# EAGLE library part 29XE010 (library memories)
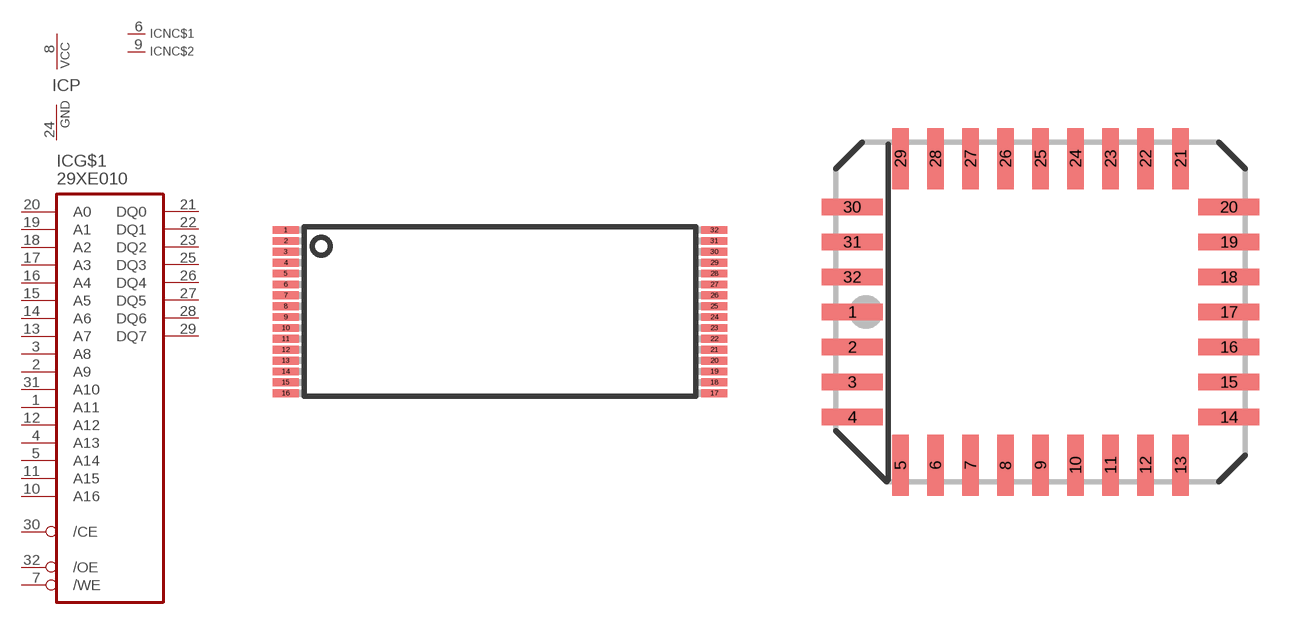
[diagram p10: symbol with the pads of TSOP32; footprints TSOP32, PLCC32]

Designator prefix IC; gates G$1=29EE010 P=PWRN NC$1=NC NC$2=NC

## 29XE010E  [TSOP32]
1  G$1:A11  in
2  G$1:A9  in
3  G$1:A8  in
4  G$1:A13  in
5  G$1:A14  in
6  NC$1:NC  nc
7  G$1:/WE  in
8  P:VCC  pwr
9  NC$2:NC  nc
10  G$1:A16  in
11  G$1:A15  in
12  G$1:A12  in
13  G$1:A7  in
14  G$1:A6  in
15  G$1:A5  in
16  G$1:A4  in
17  G$1:A3  in
18  G$1:A2  in
19  G$1:A1  in
20  G$1:A0  in
21  G$1:DQ0
22  G$1:DQ1
23  G$1:DQ2
24  P:GND  pwr
25  G$1:DQ3
26  G$1:DQ4
27  G$1:DQ5
28  G$1:DQ6
29  G$1:DQ7
30  G$1:/CE  in
31  G$1:A10  in
32  G$1:/OE  in

## 29XE010P  [PLCC32]
1  NC$1:NC  nc
2  G$1:A16  in
3  G$1:A15  in
4  G$1:A12  in
5  G$1:A7  in
6  G$1:A6  in
7  G$1:A5  in
8  G$1:A4  in
9  G$1:A3  in
10  G$1:A2  in
11  G$1:A1  in
12  G$1:A0  in
13  G$1:DQ0
14  G$1:DQ1
15  G$1:DQ2
16  P:GND  pwr
17  G$1:DQ3
18  G$1:DQ4
19  G$1:DQ5
20  G$1:DQ6
21  G$1:DQ7
22  G$1:/CE  in
23  G$1:A10  in
24  G$1:/OE  in
25  G$1:A11  in
26  G$1:A9  in
27  G$1:A8  in
28  G$1:A13  in
29  G$1:A14  in
30  NC$2:NC  nc
31  G$1:/WE  in
32  P:VCC  pwr

## 29XE010P-TH-SOCKET  [PLCC-S32]
Pads as for PLCC32

## 29XE010P-SMT-SOCKET  [PLCCSM32]
Pads as for PLCC32

## 29XE010N  [DIL32-6]
Pads as for PLCC32

## Footprint TSOP32 (pad centres in mm)
smd 1.2 x 0.36: 1 -9.85,3.75; 2 -9.85,3.25; 3 -9.85,2.75; 4 -9.85,2.25; 5 -9.85,1.75; 6 -9.85,1.25; 7 -9.85,0.75; 8 -9.85,0.25; 9 -9.85,-0.25; 10 -9.85,-0.75; 11 -9.85,-1.25; 12 -9.85,-1.75; 13 -9.85,-2.25; 14 -9.85,-2.75; 15 -9.85,-3.25; 16 -9.85,-3.75; 17 9.85,-3.75; 18 9.85,-3.25; 19 9.85,-2.75; 20 9.85,-2.25; 21 9.85,-1.75; 22 9.85,-1.25; 23 9.85,-0.75; 24 9.85,-0.25; 25 9.85,0.25; 26 9.85,0.75; 27 9.85,1.25; 28 9.85,1.75; 29 9.85,2.25; 30 9.85,2.75; 31 9.85,3.25; 32 9.85,3.75

## Footprint PLCC32 (pad centres in mm)
PLASTIC LEADED CHIP CARRIER rectangle, package type L
smd 2.2 x 0.6: 1 -6.83,0; 2 -6.83,-1.27; 3 -6.83,-2.54; 4 -6.83,-3.81; 14 6.83,-3.81; 15 6.83,-2.54; 16 6.83,-1.27; 17 6.83,0; 18 6.83,1.27; 19 6.83,2.54; 20 6.83,3.81; 30 -6.83,3.81; 31 -6.83,2.54; 32 -6.83,1.27
smd 0.6 x 2.2: 5 -5.08,-5.56; 6 -3.81,-5.56; 7 -2.54,-5.56; 8 -1.27,-5.56; 9 0,-5.56; 10 1.27,-5.56; 11 2.54,-5.56; 12 3.81,-5.56; 13 5.08,-5.56; 21 5.08,5.56; 22 3.81,5.56; 23 2.54,5.56; 24 1.27,5.56; 25 0,5.56; 26 -1.27,5.56; 27 -2.54,5.56; 28 -3.81,5.56; 29 -5.08,5.56

## Footprint PLCC-S32 (pad centres in mm)
Plastic Leaded Chip Carrier Socket
drill 0.813: 1 1.27,5.08
drill 0.813 octagon: 2 -1.27,7.62; 3 -1.27,5.08; 4 -3.81,7.62; 5 -6.35,5.08; 6 -3.81,5.08; 7 -6.35,2.54; 8 -3.81,2.54; 9 -6.35,0; 10 -3.81,0; 11 -6.35,-2.54; 12 -3.81,-2.54; 13 -6.35,-5.08; 14 -3.81,-7.62; 15 -3.81,-5.08; 16 -1.27,-7.62; 17 -1.27,-5.08; 18 1.27,-7.62; 19 1.27,-5.08; 20 3.81,-7.62; 21 6.35,-5.08; 22 3.81,-5.08; 23 6.35,-2.54; 24 3.81,-2.54; 25 6.35,0; 26 3.81,0; 27 6.35,2.54; 28 3.81,2.54; 29 6.35,5.08; 30 3.81,7.62; 31 3.81,5.08; 32 1.27,7.62

## Footprint PLCCSM32 (pad centres in mm)
smd 0.66 x 2.591: 1 0,7.62; 2 -1.27,7.62; 3 -2.54,7.62; 4 -3.81,7.62; 14 -3.81,-7.62; 15 -2.54,-7.62; 16 -1.27,-7.62; 17 0,-7.62; 18 1.27,-7.62; 19 2.54,-7.62; 20 3.81,-7.62; 30 3.81,7.62; 31 2.54,7.62; 32 1.27,7.62
smd 2.591 x 0.66: 5 -6.35,5.08; 6 -6.35,3.81; 7 -6.35,2.54; 8 -6.35,1.27; 9 -6.35,0; 10 -6.35,-1.27; 11 -6.35,-2.54; 12 -6.35,-3.81; 13 -6.35,-5.08; 21 6.35,-5.08; 22 6.35,-3.81; 23 6.35,-2.54; 24 6.35,-1.27; 25 6.35,0; 26 6.35,1.27; 27 6.35,2.54; 28 6.35,3.81; 29 6.35,5.08

## Footprint DIL32-6 (pad centres in mm)
Dual In Line 0.6 inch
drill 0.813 long: 1 -19.05,-7.62; 2 -16.51,-7.62; 3 -13.97,-7.62; 4 -11.43,-7.62; 5 -8.89,-7.62; 6 -6.35,-7.62; 7 -3.81,-7.62; 8 -1.27,-7.62; 9 1.27,-7.62; 10 3.81,-7.62; 11 6.35,-7.62; 12 8.89,-7.62; 13 11.43,-7.62; 14 13.97,-7.62; 15 16.51,-7.62; 16 19.05,-7.62; 17 19.05,7.62; 18 16.51,7.62; 19 13.97,7.62; 20 11.43,7.62; 21 8.89,7.62; 22 6.35,7.62; 23 3.81,7.62; 24 1.27,7.62; 25 -1.27,7.62; 26 -3.81,7.62; 27 -6.35,7.62; 28 -8.89,7.62; 29 -11.43,7.62; 30 -13.97,7.62; 31 -16.51,7.62; 32 -19.05,7.62